# Altium footprint library PCB - POWER INDUCTORS - LAIRD TYS5040.PcbLib: 1 footprints
Each footprint in its own frame and in the unit in brackets; x right, y up, seen from the top. Pads: shape width x height; smd on the part's side, far side on the other; paste and mask are expansions set on the pad; w line width, h text height; cw(c..) or ccw(c..) is an arc to the next point about the centre after c.
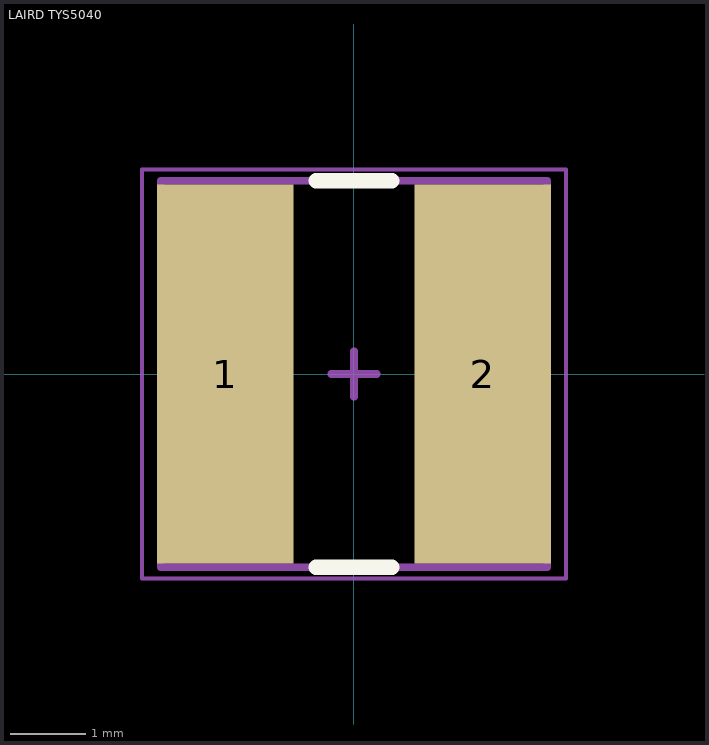
[diagram p0: the footprint, top view; thin cyan lines are the x and y axes]

## LAIRD TYS5040 [mm] "Power Inductor, 2-Leads,Laird, TYS50402R2N-10"
height 4.2
pads (2):
  rect 1.8x5 smd: 1(-1.7,0) 2(1.7,0)
Top Overlay:
  lines w0.2: -0.5,-2.55 0.5,-2.55 ; -0.5,2.55 0.5,2.55
Mechanical 13:
  lines w0.1: -2.55,-2.55 2.55,-2.55 2.55,2.55 -2.55,2.55 -2.55,-2.55
Mechanical 15 (Mech15):
  lines w0.05: -2.8,-2.7 2.8,-2.7 2.8,2.7 -2.8,2.7 -2.8,-2.7
  lines w0.1: -0.3,0 0.3,0 ; 0,-0.3 0,0.3
3D body "Laird - TYS5040.step": height 4.2, standoff 0, extent -2.55,-2.55 2.55,2.55